# EAGLE library part MPU6500 (library PiB)
MPU 6500 6DOF IMU
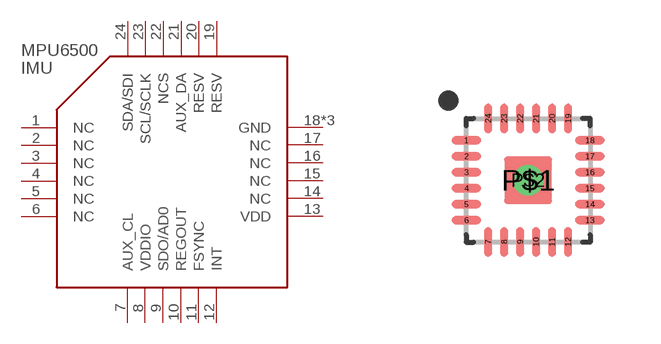
[diagram p6: symbol with the pads of QFN40P300X300X95-24; footprint QFN40P300X300X95-24]

Designator prefix IMU

## MPU6500_MPU6500_ACCEL-GYRO_I2C-SPI (DATASHEET: https://www.invensense.com/wp-content/uploads/2015/02/MPU-6500-Datasheet2.pdf; DATASHEET2: https://store.invensense.com/Datasheets/invensense/RM-MPU-6500A-00.pdf; DIST: Digikey; DISTLINK: https://www.digikey.com/products/en?keywords=1428-1011-1-ND; DISTPN: 1428-1011-1-ND; MFR: TDK InvenSense; MPN: MPU-6500; VALUE: MPU6500)  [QFN40P300X300X95-24]
1  NC  nc
2  NC  nc
3  NC  nc
4  NC  nc
5  NC  nc
6  NC  nc
7  AUX_CL
8  VDDIO  pwr
9  SDO/AD0
10  REGOUT
11  FSYNC
12  INT
13  VDD  pwr
14  NC  nc
15  NC  nc
16  NC  nc
17  NC  nc
18  GND  pwr
19  RESV
20  RESV
21  AUX_DA
22  NCS
23  SCL/SCLK
24  SDA/SDI
P$1  GND  pwr
P$2  GND  pwr

## Footprint QFN40P300X300X95-24 (pad centres in mm)
24-QFN, 0.4 mm pitch, 3 X 3 X 0.95 mm body 24-pin QFN package with 0.4 mm pitch with body size 3 X 3 X 0.95 mm
smd 0.738 x 0.2: 1 -1.546,1; 2 -1.546,0.6; 3 -1.546,0.2; 4 -1.546,-0.2; 5 -1.546,-0.6; 6 -1.546,-1; 13 1.546,-1; 14 1.546,-0.6; 15 1.546,-0.2; 16 1.546,0.2; 17 1.546,0.6; 18 1.546,1
smd 0.2 x 0.738: 7 -1,-1.546; 8 -0.6,-1.546; 9 -0.2,-1.546; 10 0.2,-1.546; 11 0.6,-1.546; 12 1,-1.546; 19 1,1.546; 20 0.6,1.546; 21 0.2,1.546; 22 -0.2,1.546; 23 -0.6,1.546; 24 -1,1.546
smd 1.2 x 1.2: P$1 0,0
drill 0.254 pad 0.508: P$2 0,0